# Altium footprint library USB4110-GF-A.PCBLIB: 1 footprints
Each footprint in its own frame and in the unit in brackets; x right, y up, seen from the top. Pads: shape width x height; smd on the part's side, far side on the other; paste and mask are expansions set on the pad; w line width, h text height; cw(c..) or ccw(c..) is an arc to the next point about the centre after c.
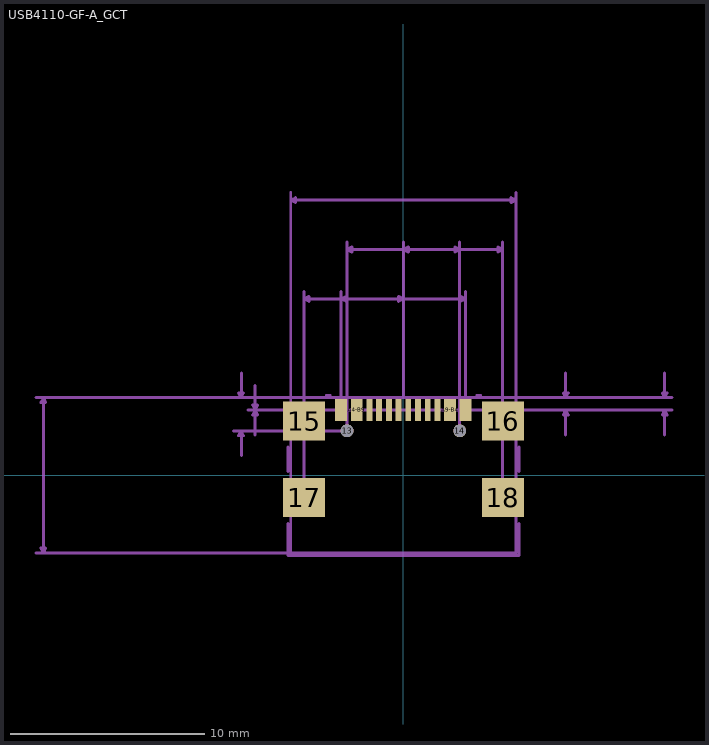
[diagram p0: the footprint, top view; thin cyan lines are the x and y axes]

## USB4110-GF-A_GCT [mil]
pads (18):
  round 26 hole 26: 13(-114,90) 14(114,90)
  rect 85x79 smd: 15(-201.18,109.76) 16(201.18,109.76) 17(-201.18,-44.97) 18(201.18,-44.97)
  rect 24x45 smd: A1-B12(-125.98,132.39) A4-B9(-94.49,132.39) A9-B4(94.49,132.39) A12-B1(125.98,132.39)
  rect 12x45 smd: A5(-49.21,132.39) A6(-9.84,132.39) A7(9.84,132.39) A8(49.21,132.39) B5(68.9,132.39) B6(29.53,132.39) B7(-29.53,132.39) B8(-68.9,132.39)
tDocu:
  lines w6: -228,-157 228,-157 228,157 -228,157 -228,-157
  text "*" at -249,107 h77.5
tPlace:
  lines w6: -234,-98 -234,-162 234,-162 234,-98 ; -234,8 -234,57 ; -156,162 -149,162 ; 149,162 156,162 ; 234,8 234,57
  text "*" at -249,107 h77.5
Measures:
  lines w6: -744,-157 -728,-157 ; -744,157 -728,157 ; -344,90 -328,90 ; -328,40 -328,90 ; -328,207 -328,157 ; -315,132 -300,132 ; -300,82 -300,132 ; -300,182 -300,132 ; -228,572 -228,557 ; -201,-45 -201,357 ; -201,372 -201,357 ; -126,372 -126,357 ; -114,472 -114,457 ; 0,472 0,457 ; 114,90 114,457 ; 114,472 114,457 ; 126,372 126,357 ; 201,-45 201,457 ; 201,472 201,457 ; 228,-157 228,557 ; 228,572 228,557 ; 328,82 328,132 ; 328,207 328,157 ; 528,82 528,132 ; 528,207 528,157 ; 544,132 528,132 ; 544,157 528,157 ; -728,-157 -228,-157 -228,157 ; -728,-157 -728,157 ; -728,-157 -734,-147 -724,-147 -728,-157 ; -728,157 -328,157 ; -728,157 -734,147 -724,147 -728,157 ; -328,90 -114,90 -114,457 ; -328,90 -334,80 -324,80 -328,90 ; -328,157 -228,157 ; -328,157 -334,167 -324,167 -328,157 ; -300,132 -126,132 ; -300,132 -305,142 -295,142 -300,132 ; -300,132 -305,122 -295,122 -300,132 ; -228,157 -228,557 ; -228,557 228,557 ; -228,557 -218,562 -218,552 -228,557 ; -201,357 -126,357 ; -201,357 -191,362 -191,352 -201,357 ; -126,132 -126,357 ; -126,132 126,132 ; -126,357 0,357 ; -126,357 -116,362 -116,352 -126,357 ; -114,457 0,457 ; -114,457 -104,462 -104,452 -114,457 ; 0,357 126,357 ; 0,357 0,457 ; 0,357 0,157 328,157 ; 0,357 -10,362 -10,352 0,357 ; 0,457 114,457 ; 0,457 10,462 10,452 0,457 ; 114,457 104,462 104,452 114,457 ; 114,457 201,457 ; 126,132 126,357 ; 126,132 328,132 ; 126,357 116,362 116,352 126,357 ; 201,457 191,462 191,452 201,457 ; 228,557 218,562 218,552 228,557 ; 328,132 324,122 334,122 328,132 ; 328,132 528,132 ; 328,157 324,167 334,167 328,157 ; 328,157 528,157 ; 528,132 524,122 534,122 528,132 ; 528,157 524,167 534,167 528,157
  text "Top Row Padstyle:RX24Y45D0T" at -598,-317 h77.5
  text "Middle Row Padstyle: RX24Y45D0T" at -674,-392 h77.5
  text "2nd Middle Row Padstyle: RX12Y45D0T" at -765,-467 h77.5
  text "Bottom Row Padstyle: RX24Y45D0T" at -674,-542 h77.5
  text "Second Bottom Row Padstyle: EX55Y55D32P" at -855,-617 h77.5
  text "Mounting Padstyle: EX26Y26D26P" at -651,-692 h77.5
  text "Second Mounting Padstyle: RX85Y79D0T" at -787,-767 h77.5
  text "Independent Mtg Hole 1 Padstyle: RX85Y79D0T" at -939,-842 h77.5
  text "Independent Mtg Hole 2 Padstyle: RX85Y79D0T" at -939,-917 h77.5
  text "Independent Mtg Hole 3 Padstyle: EX96Y96D96P" at -962,-992 h77.5
  text "Independent Mtg Hole 4 Padstyle: EX96Y96D96P" at -962,-1067 h77.5
  text "Alt 1 Padstyle: OX60Y90D30P" at -583,-1142 h77.5
  text "Alt 2 Padstyle: OX90Y60D30P" at -583,-1217 h77.5
  text "0.252in/6.4mm" at -136,377 h38.75
  text "0in/0mm" at -376,152 h38.75
  text "0.228in/5.78mm" at -148,477 h38.75
  text "0.457in/11.608mm" at -170,577 h38.75
  text "0.067in/1.7mm" at -621,111 h38.75
  text "0.314in/7.976mm" at -1067,-12 h38.75
  text "-0.025in/-0.625mm" at 348,132 h38.75
  text "-0.025in/-0.625mm" at 548,132 h38.75
  text "0.201in/5.11mm" at -47,477 h38.75
  text "-0.201in/-5.11mm" at -271,377 h38.75